# EAGLE library part KCSA02-109 (library kcsx02)
KCSA02-109 LED 7 Segment
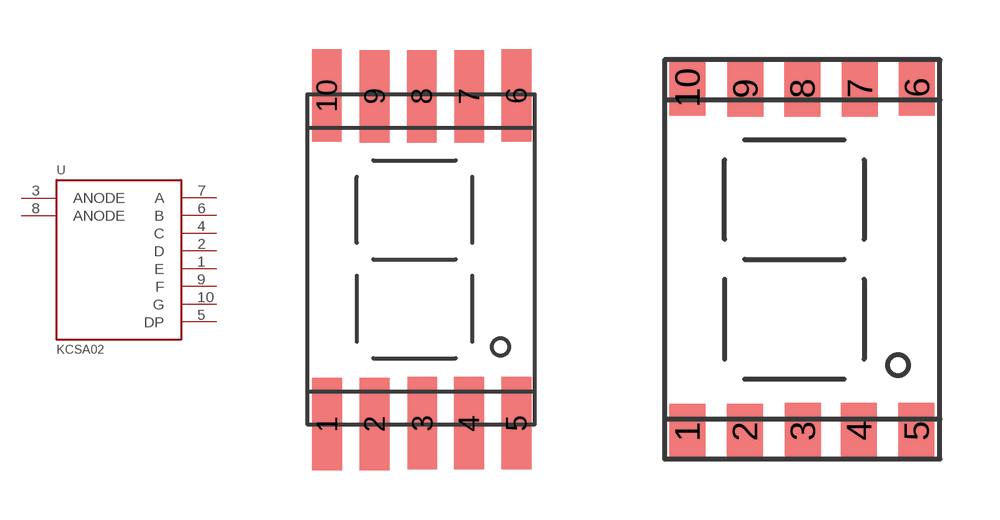
[diagram p0: symbol with the pads of KCSX02; footprints KCSX02, KCSX02-SM]

Designator prefix -

## KCSA02-109-DEFAULT  [KCSX02]
1  E
2  D
3  ANODE
4  C
5  DP
6  B
7  A
8  ANODE
9  F
10  G

## KCSA02-109-SMALL  [KCSX02-SM]
Pads as for KCSX02

## Footprint KCSX02 (pad centres in mm)
KCSA02 and KCSC02 package
smd 0.9 x 2.8: 1 0.6,0.01; 2 2.04,0.01; 3 3.49,0.03; 4 4.9,0.03; 5 6.34,0.03; 6 6.34,9.97; 7 4.91,9.95; 8 3.47,9.95; 9 2.04,9.95; 10 0.59,9.97

## Footprint KCSX02-SM (pad centres in mm)
smd 0.9 x 1.4: 1 0.57,0.68; 2 2.01,0.68; 3 3.46,0.7; 4 4.87,0.7; 5 6.31,0.7; 6 6.32,9.3; 7 4.89,9.28; 8 3.45,9.28; 9 2.02,9.28; 10 0.57,9.3